# Altium footprint library vlf4012-2r2.PcbLib: 1 footprints
Each footprint in its own frame and in the unit in brackets; x right, y up, seen from the top. Pads: shape width x height; smd on the part's side, far side on the other; paste and mask are expansions set on the pad; w line width, h text height; cw(c..) or ccw(c..) is an arc to the next point about the centre after c.
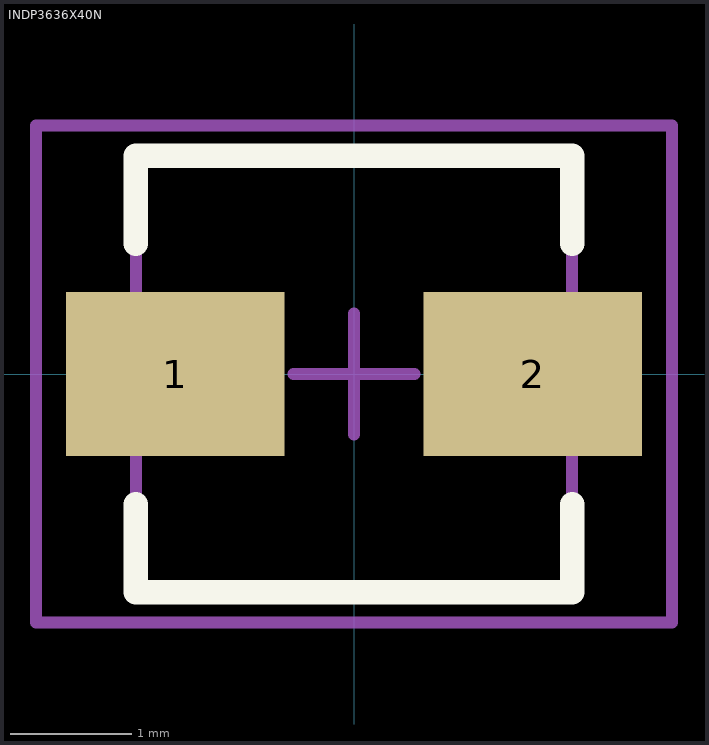
[diagram p0: the footprint, top view; thin cyan lines are the x and y axes]

## INDP3636X40N [mm] "Precision Wire Wound Inductor, 2-Leads, Body 3.6x3.6mm, IPC Medium Density"
height 4
pads (2):
  rect 1.8x1.35 smd: 1(-1.475,0) 2(1.475,0)
Top Overlay:
  lines w0.2: -1.8,-1.075 -1.8,-1.8 1.8,-1.8 1.8,-1.075 ; -1.8,1.075 -1.8,1.8 1.8,1.8 1.8,1.075
Mechanical 13:
  lines w0.1: -1.8,-1.8 -1.8,1.8 1.8,1.8 1.8,-1.8 -1.8,-1.8
Mechanical 15:
  lines w0.1: -0.5,0 0.5,0 ; 0,-0.5 0,0.5 ; -2.625,-2.05 -2.625,2.05 2.625,2.05 2.625,-2.05 -2.625,-2.05
3D body: height 4, standoff 0, extent -1.8,-1.8 1.8,1.8